# Altium schematic symbol library SCH - LOGO - LAGENFESNSTER 6.Schlib: 1 symbol
Pins are listed as number, name and electrical type; pins without a type are passive.

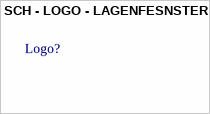
[diagram p0: symbol SCH - LOGO - LAGENFESNSTER 6]

## SCH - LOGO - LAGENFESNSTER 6
designator Logo?  (no BOM)
footprint Lagenfenster_6Layer